# Altium schematic symbol library R 1210 1% YAGEO.SchLib: 3 symbols
Pins are listed as number, name and electrical type; pins without a type are passive.

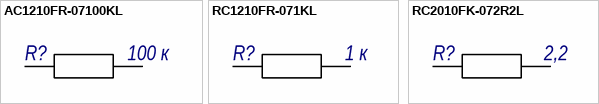
[diagram p0: symbols AC1210FR-07100KL to RC2010FK-072R2L]

## AC1210FR-07100KL
designator R?, comment value 100 к  (hidden comment: Резистор чип 1210-0,25 Вт-100 кОм ±1% фирма "YAGEO")
чип 1210-0,5 Вт-100 кОм ±1% фирма "YAGEO"; PartNumber: AC1210FR-07100KL; Power: 0,25 Вт; Tol: ± 1%; Manufacturer: фирма "YAGEO"; Name: Резистор; TYP: чип 1210; GOST: Резистор чип 1210-0,25 Вт-100 кОм ±1% фирма "YAGEO"
footprint R1210_H06M (Dim 3.2mm*2.7mm H=0.6mm)
pins: 1, 2
1 alternate drawing of the same symbol

## RC1210FR-071KL
designator R?, comment value 1 к  (hidden comment: Резистор чип 1210-0,5 Вт-1 кОм ±1% фирма "YAGEO")
чип 1210-0,5 Вт-1 кОм ±1% фирма "YAGEO"; PartNumber: RC1210FR-071KL; Power: 0,5 Вт; Tol: ± 1%; Manufacturer: фирма "YAGEO"; Name: Резистор; TYP: чип 1210; GOST: Резистор чип 1210-0,5 Вт-1 кОм ±1% фирма "YAGEO"
footprint R1210_H06M (Dim 3.2mm*2.7mm H=0.6mm)
pins: 1, 2
1 alternate drawing of the same symbol

## RC2010FK-072R2L
designator R?, comment value 2,2  (hidden comment: Резистор чип 1210-0,75 Вт-2,2 Ом ±1% фирма "YAGEO")
чип 1210-0,75 Вт-2,2 Ом ±1% фирма "YAGEO"; PartNumber: RC2010FK-072R2L; Power: 0,75 Вт; Tol: ± 1%; Manufacturer: фирма "YAGEO"; Name: Резистор; TYP: чип 1210; GOST: Резистор чип 1210-0,75 Вт-2,2 Ом ±1% фирма "YAGEO"
footprint R1210_H06M (Dim 3.2mm*2.7mm H=0.6mm)
pins: 1, 2
1 alternate drawing of the same symbol